# EAGLE library part TPS2419 (library custom)
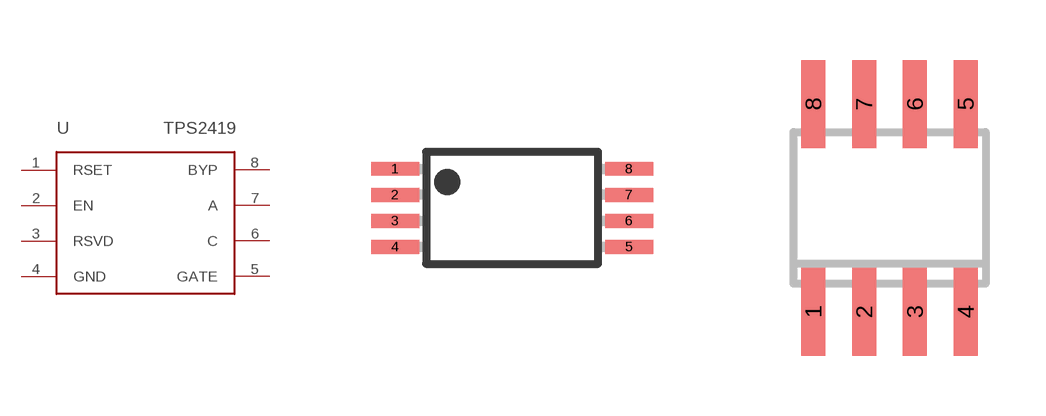
[diagram p1: symbol with the pads of TSSOP8; footprints TSSOP8, SO-08]

Designator prefix -

## TPS2419PW  [TSSOP8]
1  RSET
2  EN
3  RSVD
4  GND
5  GATE
6  C
7  A
8  BYP

## TPS2419D  [SO-08]
Pads as for TSSOP8

## Footprint TSSOP8 (pad centres in mm)
Plastic Small Outline
smd 1.2 x 0.35: 1 -2.925,0.975; 2 -2.925,0.325; 3 -2.925,-0.325; 4 -2.925,-0.975; 5 2.925,-0.975; 6 2.925,-0.325; 7 2.925,0.325; 8 2.925,0.975

## Footprint SO-08 (pad centres in mm)
D (R-PDSO-G8) Plastic Small Outline Package Source: http://focus.ti.com/lit/ds/symlink/sn65als176.pdf
smd 0.6 x 2.2: 1 -1.905,-2.6; 2 -0.635,-2.6; 3 0.635,-2.6; 4 1.905,-2.6; 5 1.905,2.6; 6 0.635,2.6; 7 -0.635,2.6; 8 -1.905,2.6